# Altium schematic symbol library RocketLib.SchLib: 7 symbols
Pins are listed as number, name and electrical type; pins without a type are passive.

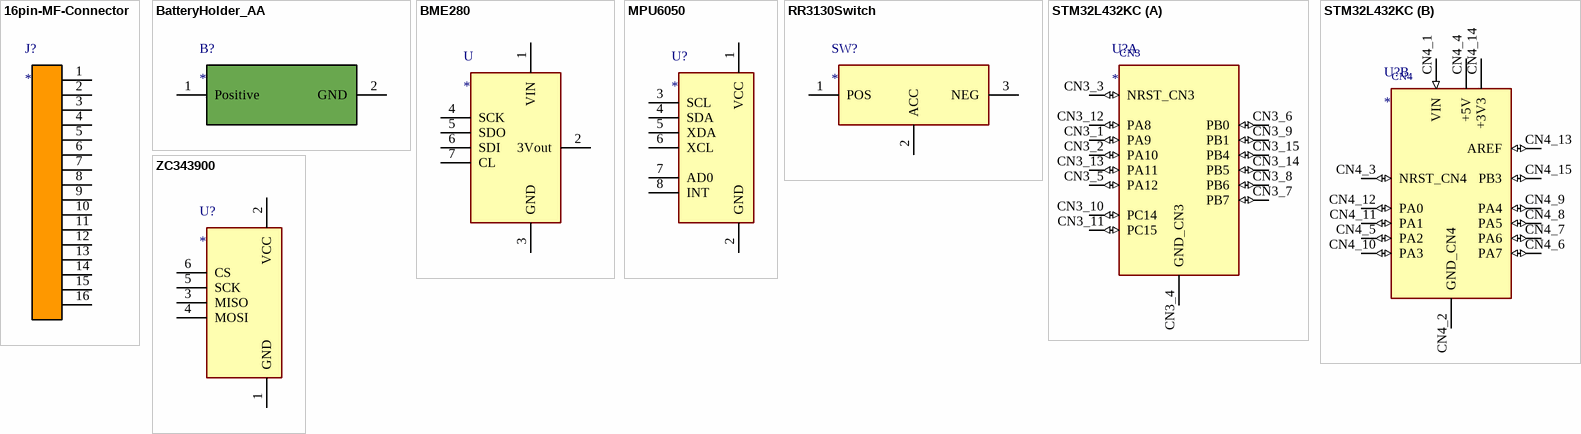
[diagram p0: symbols 16pin-MF-Connector to ZC343900]

## 16pin-MF-Connector
designator J?
footprint 16pin-MF-Connector
pins: 1, 2, 3, 4, 5, 6, 7, 8, 9, 10, 11, 12, 13, 14, 15, 16

## BatteryHolder_AA
designator B?
Keystone Electronics 1088
footprint BatteryHolder_AA
pins: 1 Positive, 2 GND

## BME280
designator U
footprint BME280
pins: 1 VIN, 2 3Vout, 3 GND, 4 SCK, 5 SDO, 6 SDI, 7 CL

## MPU6050
designator U?
footprint MPU6050
pins: 1 VCC, 2 GND, 3 SCL, 4 SDA, 5 XDA, 6 XCL, 7 AD0, 8 INT

## RR3130Switch
designator SW?
SWITCH ROCKER SPST 10A 125V
footprint RR3130Switch (SWITCH ROCKER SPST 10A 125V)
pins: 1 POS, 2 ACC, 3 NEG

## STM32L432KC
designator U?
footprint STM32L432KC
part A pins: CN3_1 PA9 (io), CN3_2 PA10 (io), CN3_3 NRST_CN3 (io), CN3_4 GND_CN3 (power), CN3_5 PA12 (io), CN3_6 PB0 (io), CN3_7 PB7 (io), CN3_8 PB6 (io), CN3_9 PB1 (io), CN3_10 PC14 (io), CN3_11 PC15 (io), CN3_12 PA8 (io), CN3_13 PA11 (io), CN3_14 PB5 (io), CN3_15 PB4 (io)
part B pins: CN4_1 VIN (in), CN4_2 GND_CN4 (power), CN4_3 NRST_CN4 (io), CN4_4 +5V (power), CN4_5 PA2 (io), CN4_6 PA7 (io), CN4_7 PA6 (io), CN4_8 PA5 (io), CN4_9 PA4 (io), CN4_10 PA3 (io), CN4_11 PA1 (io), CN4_12 PA0 (io), CN4_13 AREF (io), CN4_14 +3V3 (power), CN4_15 PB3 (io)
part A text: CN3
part B text: CN4

## ZC343900
designator U?
MicroSD Adapter
footprint ZC343900 (MicroSD Adapter)
pins: 1 GND, 2 VCC, 3 MISO, 4 MOSI, 5 SCK, 6 CS